# EAGLE library part 74HC04_HEX_INVERTER (library kmod-ics)
74HC04 Hex Inverter
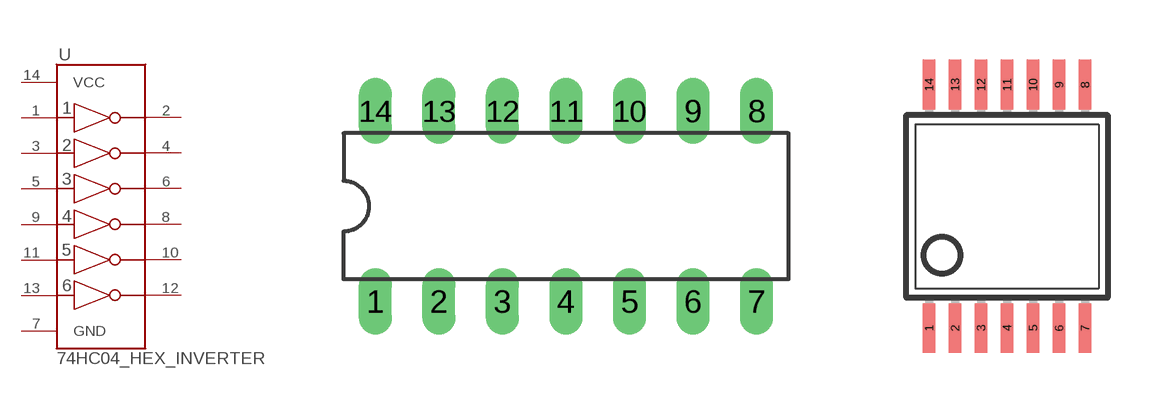
[diagram p2: symbol with the pads of DIL14; footprints DIL14, TSSOP14]

Designator prefix U

## 74HC04_HEX_INVERTER  [DIL14]
1  1A  in
2  1Y  out
3  2A  in
4  2Y  out
5  3A  in
6  3Y  out
7  GND  pwr
8  4Y  out
9  4A  in
10  5Y  out
11  5A  in
12  6Y  out
13  6A  in
14  VCC  pwr

## 74HC04_HEX_INVERTERTSSOP14  [TSSOP14]
Pads as for DIL14

## Footprint DIL14 (pad centres in mm)
Dual In Line Package Forget where I copied from; works fine.
drill 0.813 long: 1 -7.62,-3.81; 2 -5.08,-3.81; 3 -2.54,-3.81; 4 0,-3.81; 5 2.54,-3.81; 6 5.08,-3.81; 7 7.62,-3.81; 8 7.62,3.81; 9 5.08,3.81; 10 2.54,3.81; 11 0,3.81; 12 -2.54,3.81; 13 -5.08,3.81; 14 -7.62,3.81

## Footprint TSSOP14 (pad centres in mm)
Thin Shrink Small Outline Plastic 14, 4.40mm width Forget where I copied from, but seems to work well. Could maybe make pads longer for easier hand-soldering. - ok made them longer by 10mil (0.25mm); they now stick past the end by about 0.5mm
smd 0.305 x 1.245: 1 -1.95,-3.045; 2 -1.3,-3.045; 3 -0.65,-3.045; 4 0,-3.045; 5 0.65,-3.045; 6 1.3,-3.045; 7 1.95,-3.045; 8 1.95,3.045; 9 1.3,3.045; 10 0.65,3.045; 11 0,3.045; 12 -0.65,3.045; 13 -1.3,3.045; 14 -1.95,3.045